# EAGLE library part SFV24R-3STBE1HLF (library SFV24R-3STBE1HLF)
Check availability <https://pricing.snapeda.com/parts/SFV24R-3STBE1HLF/Amphenol/view-part?ref=eda>
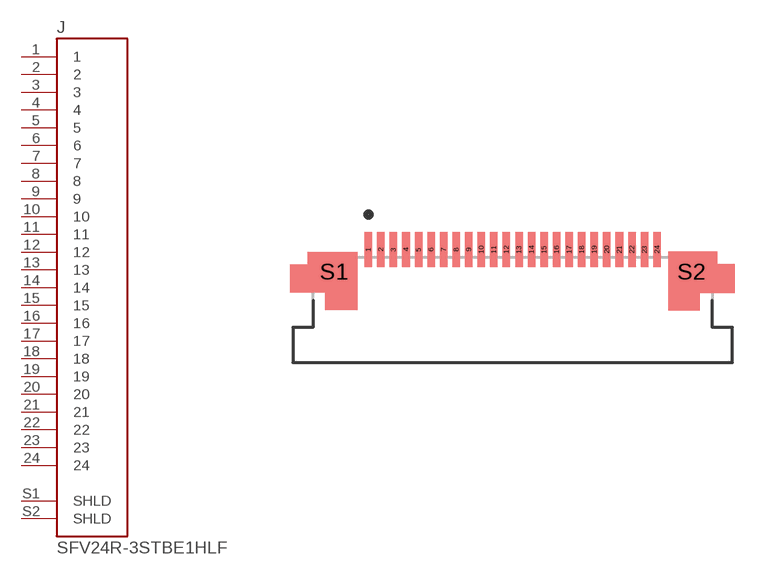
[diagram p0: symbol with the pads of AMPHENOL_SFV24R-3STBE1HLF; footprint AMPHENOL_SFV24R-3STBE1HLF]

Designator prefix J

## SFV24R-3STBE1HLF (AVAILABILITY: In Stock; CHECK_PRICES: https://www.snapeda.com/parts/SFV24R-3STBE1HLF/Amphenol/view-part/?ref=eda; DESCRIPTION: 0.50mm Flex Connector, SFV-R Series, 24 Position, Bottom Side Contact, Side Entry Surface Mount ZIF Connector, Halogen Free, Lead Free with Cable-Lock, Gold Flash.; MF: Amphenol; MP: SFV24R-3STBE1HLF; PACKAGE: None; PRICE: None; PURCHASE-URL: https://www.snapeda.com/api/url_track_click_mouser/?unipart_id=13564515&manufacturer=Amphenol&part_name=SFV24R-3STBE1HLF&search_term=None; SNAPEDA_LINK: https://www.snapeda.com/parts/SFV24R-3STBE1HLF/Amphenol/view-part/?ref=snap)  [AMPHENOL_SFV24R-3STBE1HLF]
1  1  pas
2  2  pas
3  3  pas
4  4  pas
5  5  pas
6  6  pas
7  7  pas
8  8  pas
9  9  pas
10  10  pas
11  11  pas
12  12  pas
13  13  pas
14  14  pas
15  15  pas
16  16  pas
17  17  pas
18  18  pas
19  19  pas
20  20  pas
21  21  pas
22  22  pas
23  23  pas
24  24  pas
S1  SHLD
S2  SHLD

## Footprint AMPHENOL_SFV24R-3STBE1HLF (pad centres in mm)
smd 0.3 x 1.4: 1 -5.75,2.4; 2 -5.25,2.4; 3 -4.75,2.4; 4 -4.25,2.4; 5 -3.75,2.4; 6 -3.25,2.4; 7 -2.75,2.4; 8 -2.25,2.4; 9 -1.75,2.4; 10 -1.25,2.4; 11 -0.75,2.4; 12 -0.25,2.4; 13 0.25,2.4; 14 0.75,2.4; 15 1.25,2.4; 16 1.75,2.4; 17 2.25,2.4; 18 2.75,2.4; 19 3.25,2.4; 20 3.75,2.4; 21 4.25,2.4; 22 4.75,2.4; 23 5.25,2.4; 24 5.75,2.4
smd 1 x 1: S1 -7.12,1.53; S2 7.12,1.53